# Altium footprint library D 电位器.PcbLib: 2 footprints
Each footprint in its own frame and in the unit in brackets; x right, y up, seen from the top. Pads: shape width x height; smd on the part's side, far side on the other; paste and mask are expansions set on the pad; w line width, h text height; cw(c..) or ccw(c..) is an arc to the next point about the centre after c.
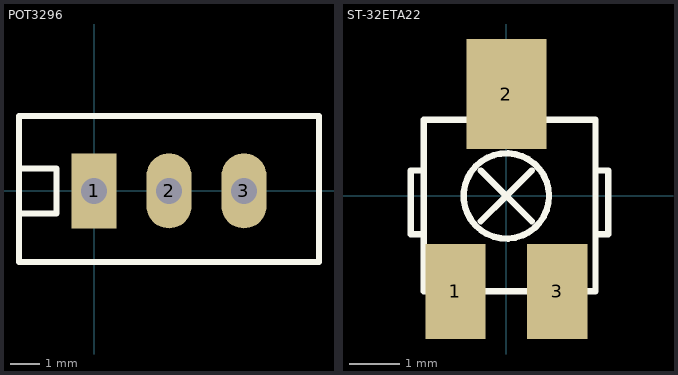
[diagram p0: the footprints below, top view; thin cyan lines are the x and y axes]

## POT3296 [mil] "电位器"
height 472.44
pads (3):
  rect 60x100 hole 35: 1(0,0)
  oval 60x100 hole 35: 2(100,0) 3(200,0)
Top Overlay:
  lines w8: -100,-30 -50,-30 -50,30 -100,30 ; -100,-95 300,-95 300,100 -100,100 -100,-95

## ST-32ETA22 [mm] "日本科宝/贴片电位器"
pads (3):
  rect 1.2x1.9 smd: 1(-1.016,-1.905) 3(1.016,-1.905)
  rect 1.6x2.2 smd: 2(0,2.032)
Top Overlay:
  circle w0.127: c0,0 r0.852
  lines w0.127: -1.651,-0.762 -1.905,-0.762 -1.905,0.508 -1.651,0.508 ; -0.508,-0.508 0,0 ; 0.508,-0.508 -0.508,0.508 0,0 ; 0.508,0.508 0,0 ; 1.778,-0.762 2.032,-0.762 2.032,0.508 1.778,0.508 ; -1.651,-1.905 -1.651,1.524 1.778,1.524 1.778,-1.905 -1.651,-1.905